# EAGLE library part OV2640 (library satcam)
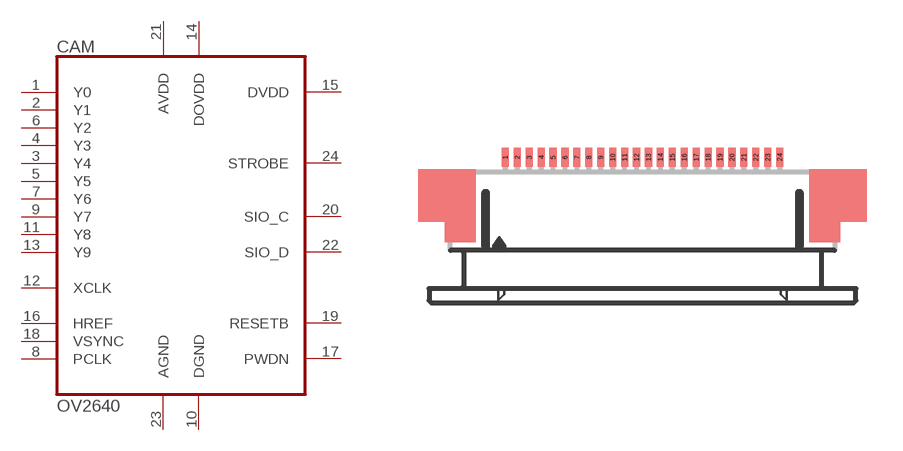
[diagram p5: symbol with the pads of 52745-2490; footprint 52745-2490]

Designator prefix CAM

## OV2640  [52745-2490]
1  Y0  out
2  Y1  out
3  Y4  out
4  Y3  out
5  Y5  out
6  Y2  out
7  Y6  out
8  PCLK  out
9  Y7  out
10  DGND  pwr
11  Y8  out
12  XCLK  in
13  Y9  out
14  DOVDD  pwr
15  DVDD  pas
16  HREF  out
17  PWDN  in
18  VSYNC  out
19  RESETB  in
20  SIO_C
21  AVDD  pwr
22  SIO_D
23  AGND  pwr
24  STROBE  out

## Footprint 52745-2490 (pad centres in mm)
FFC/FPC-to-Board 0.50mm (.020") SMT Top Contact Right Angle, ZIF, Style Receptacle 52745 / 52435 Source: http://www.molex.com/product/ffc/52745.html
smd 0.3 x 0.8: 1 -5.75,2.5; 2 -5.25,2.5; 3 -4.75,2.5; 4 -4.25,2.5; 5 -3.75,2.5; 6 -3.25,2.5; 7 -2.75,2.5; 8 -2.25,2.5; 9 -1.75,2.5; 10 -1.25,2.5; 11 -0.75,2.5; 12 -0.25,2.5; 13 0.25,2.5; 14 0.75,2.5; 15 1.25,2.5; 16 1.75,2.5; 17 2.25,2.5; 18 2.75,2.5; 19 3.25,2.5; 20 3.75,2.5; 21 4.25,2.5; 22 4.75,2.5; 23 5.25,2.5; 24 5.75,2.5